# Altium footprint library 691 241 510 0xx.PcbLib: 7 footprints
Each footprint in its own frame and in the unit in brackets; x right, y up, seen from the top. Pads: shape width x height; smd on the part's side, far side on the other; paste and mask are expansions set on the pad; w line width, h text height; cw(c..) or ccw(c..) is an arc to the next point about the centre after c.
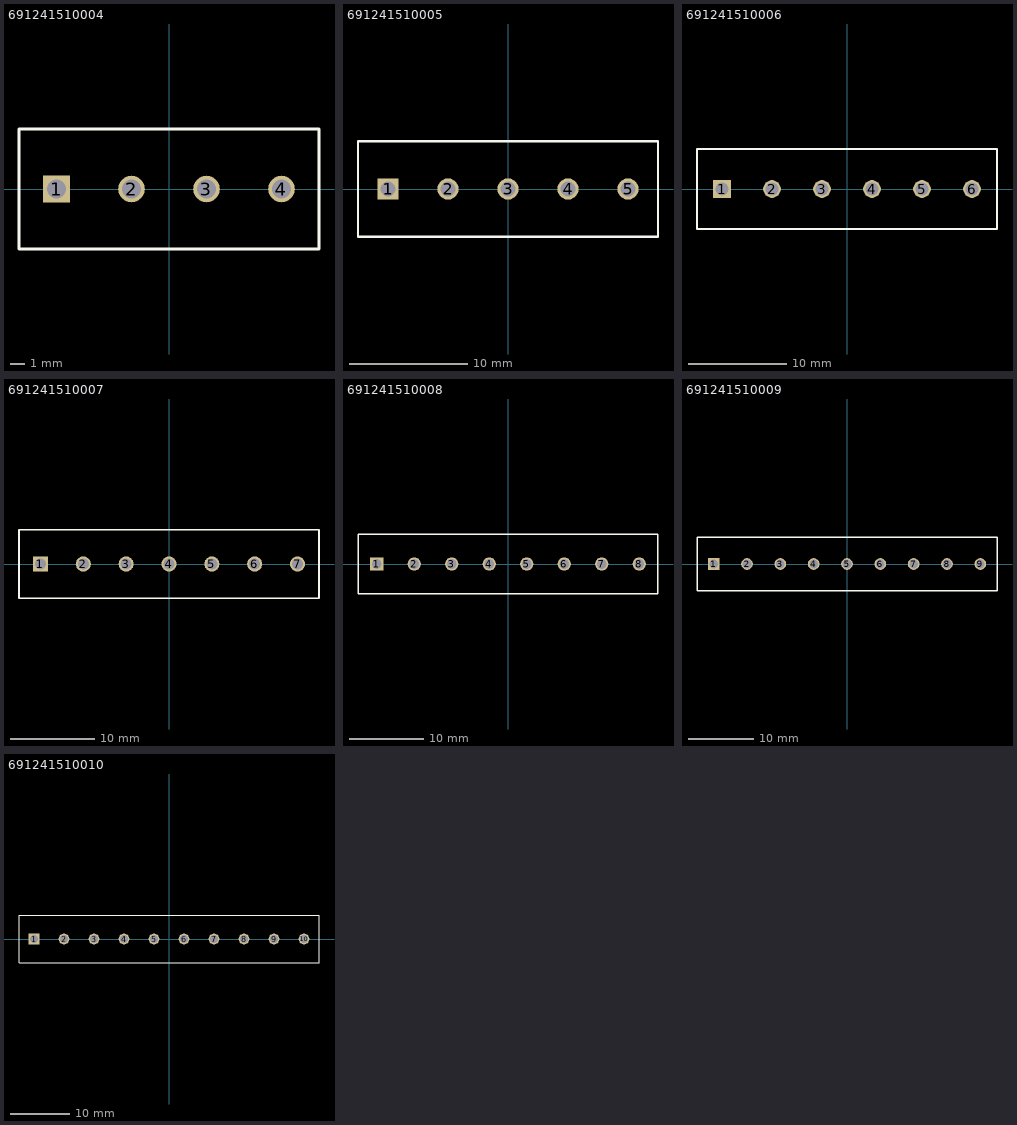
[diagram p0: the footprints below, top view; thin cyan lines are the x and y axes]

## 691241510004 [mm] "Serie 2415 - 5.08 mm _ 4 pins"
height 10
pads (4):
  rect 1.8x1.8 hole 1.3: 1(-7.62,0)
  round 1.8 hole 1.3: 2(-2.54,0) 3(2.54,0) 4(7.62,0)
Top Overlay:
  lines w0.2: -10.16,-4.05 -10.16,4.05 10.16,4.05 10.16,-4.05 -10.16,-4.05
3D body: height 10.05, standoff -3.45, extent -10.16,-4 10.16,4.1

## 691241510005 [mm] "Serie 2415 - 5.08 mm _ 5 pins"
height 10
pads (5):
  rect 1.8x1.8 hole 1.3: 1(-10.16,0)
  round 1.8 hole 1.3: 2(-5.08,0) 3(0,0) 4(5.08,0) 5(10.16,0)
Top Overlay:
  lines w0.2: -12.7,-4.05 -12.7,4.05 12.7,4.05 12.7,-4.05 -12.7,-4.05
3D body: height 10.05, standoff -3.45, extent -12.75,-4.15 12.65,3.95

## 691241510006 [mm] "Serie 2415 - 5.08 mm _ 6 pins"
height 10
pads (6):
  rect 1.8x1.8 hole 1.3: 1(-12.7,0)
  round 1.8 hole 1.3: 2(-7.62,0) 3(-2.54,0) 4(2.54,0) 5(7.62,0) 6(12.7,0)
Top Overlay:
  lines w0.2: -15.24,-4.05 -15.24,4.05 15.24,4.05 15.24,-4.05 -15.24,-4.05
3D body: height 10.05, standoff -3.45, extent -15.19,-4.05 15.29,4.05

## 691241510007 [mm] "Serie 2415 - 5.08 mm _ 7 pins"
height 10
pads (7):
  rect 1.8x1.8 hole 1.3: 1(-15.24,0)
  round 1.8 hole 1.3: 2(-10.16,0) 3(-5.08,0) 4(0,0) 5(5.08,0) 6(10.16,0) 7(15.24,0)
Top Overlay:
  lines w0.2: -17.78,-4.05 17.78,-4.05 17.78,4.05 -17.78,4.05 -17.78,-4.05
3D body: height 10.05, standoff -3.45, extent -17.83,-4.05 17.73,4.05

## 691241510008 [mm] "Serie 2415 - 5.08 mm _ 8 pins"
height 10
pads (8):
  rect 1.8x1.8 hole 1.3: 1(-17.78,0)
  round 1.8 hole 1.3: 2(-12.7,0) 3(-7.62,0) 4(-2.54,0) 5(2.54,0) 6(7.62,0) 7(12.7,0) 8(17.78,0)
Top Overlay:
  lines w0.2: -20.32,-4.05 -20.32,4.05 20.32,4.05 20.32,-4.05 -20.32,-4.05
3D body: height 10.05, standoff -3.45, extent -20.4,-4.05 20.24,4.05

## 691241510009 [mm] "Serie 2415 - 5.08 mm _ 9 pins"
height 10
pads (9):
  rect 1.8x1.8 hole 1.3: 1(-20.32,0)
  round 1.8 hole 1.3: 2(-15.24,0) 3(-10.16,0) 4(-5.08,0) 5(0,0) 6(5.08,0) 7(10.16,0) 8(15.24,0) 9(20.32,0)
Top Overlay:
  lines w0.2: -22.86,-4.05 -22.86,4.05 22.86,4.05 22.86,-4.05 -22.86,-4.05
3D body: height 10.05, standoff -3.45, extent -22.87,-4.1 22.85,4

## 691241510010 [mm] "Serie 2415 - 5.08 mm _ 10 pins"
height 10
pads (10):
  rect 1.8x1.8 hole 1.3: 1(-22.86,0)
  round 1.8 hole 1.3: 2(-17.78,0) 3(-12.7,0) 4(-7.62,0) 5(-2.54,0) 6(2.54,0) 7(7.62,0) 8(12.7,0) 9(17.78,0) 10(22.86,0)
Top Overlay:
  lines w0.2: -25.4,-4.05 -25.4,4.05 25.4,4.05 25.4,-4.05 -25.4,-4.05
3D body: height 10.05, standoff -3.45, extent -25.35,-3.95 25.45,4.15